# EAGLE library part ESP-WROOM-32_NOFLASH (library esp32 _my)
Espressif Systems ESP-WROOM-32
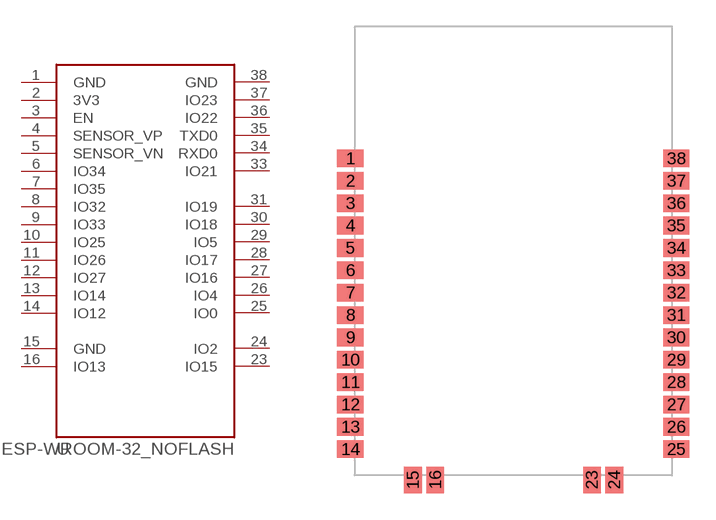
[diagram p0: symbol with the pads of ESP-WROOM-32_NOFLASH; footprint ESP-WROOM-32_NOFLASH]

Designator prefix U

## ESP-WROOM-32_NOFLASH  [ESP-WROOM-32_NOFLASH]
1  GND  pwr
2  3V3  pwr
3  EN  in
4  SENSOR_VP
5  SENSOR_VN
6  IO34
7  IO35
8  IO32
9  IO33
10  IO25
11  IO26
12  IO27
13  IO14
14  IO12
15  GND  pwr
16  IO13
23  IO15
24  IO2
25  IO0
26  IO4
27  IO16
28  IO17
29  IO5
30  IO18
31  IO19
33  IO21
34  RXD0
35  TXD0
36  IO22
37  IO23
38  GND  pwr

## Footprint ESP-WROOM-32_NOFLASH (pad centres in mm)
smd 1.5 x 1: 1 -9.25,7; 2 -9.25,5.73; 3 -9.25,4.46; 4 -9.25,3.19; 5 -9.25,1.92; 6 -9.25,0.65; 7 -9.25,-0.62; 8 -9.25,-1.89; 9 -9.25,-3.16; 10 -9.25,-4.43; 11 -9.25,-5.7; 12 -9.25,-6.97; 13 -9.25,-8.24; 14 -9.25,-9.51; 25 9.25,-9.51; 26 9.25,-8.24; 27 9.25,-6.97; 28 9.25,-5.7; 29 9.25,-4.43; 30 9.25,-3.16; 31 9.25,-1.89; 32 9.25,-0.62; 33 9.25,0.65; 34 9.25,1.92; 35 9.25,3.19; 36 9.25,4.46; 37 9.25,5.73; 38 9.25,7
smd 1 x 1.5: 15 -5.7,-11.25; 16 -4.43,-11.25; 23 4.46,-11.25; 24 5.73,-11.25